# Altium schematic symbol library mainLib.SchLib: 178 symbols (part 1 of 2)
Pins are listed as number, name and electrical type; pins without a type are passive.

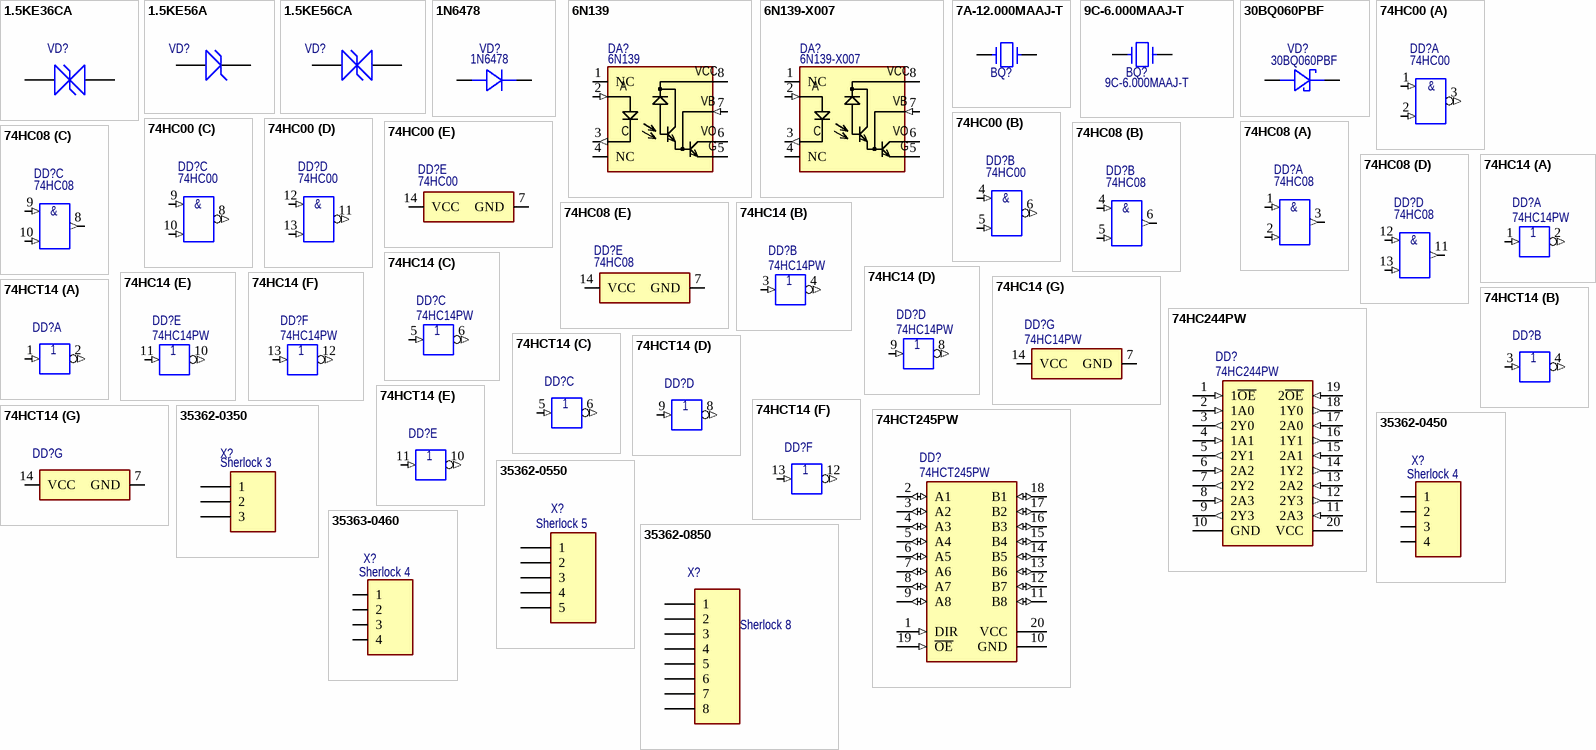
[diagram p0: symbols 1.5KE36CA to 35363-0460]

## 1.5KE36CA
designator VD?
1500 W Zener Transient Voltage Suppressor, Bidirectional; Manufacturer: LITTELFUSE; PartNumber: 1.5KE36CA
footprint 1.5KE_CA (AXIAL, 2-Leads, Diameter 5.05mm)
pins: 1, 2

## 1.5KE56A
designator VD?
1500 W Zener Transient Voltage Suppressor; Manufacturer: LITTELFUSE; PartNumber: 1.5KE36A
footprint 1.5KE_A (AXIAL, 2-Leads, Diameter 5.05mm)
pins: 1, 2

## 1.5KE56CA
designator VD?
1500 W Zener Transient Voltage Suppressor, Bidirectional; Manufacturer: LITTELFUSE; PartNumber: 1.5KE36CA
footprint 1.5KE_CA (AXIAL, 2-Leads, Diameter 5.05mm)
pins: 1, 2

## 1N6478
designator VD?
If=1A, Vf=1.1V Vrrm=50V Diode (DO-213AB); Manufacturer: Vishay; PartNumber: 1N6478
footprint DO-213AB (MELF Diode, 2-Leads, Body 4,95x2,54mm, IPC Low Density)
pins: 1 ANODE, 2 CATHODE

## 6N139
designator DA?
Optocoupler darlingron 5.3kV 100 kbit/s; Manufacturer: Vishay; PartNumber: 6N139
footprint DIP8
pins: 1 NC, 2 (in), 3 C (out), 4 NC, 5 (power), 6 (oc), 7 VB (in), 8 VCC (power)
text: A; VO; G

## 6N139-X007
designator DA?
Optocoupler darlingron 5.3kV 100 kbit/s; Manufacturer: Vishay; PartNumber: 6N139-X007
footprint 6N139-X007 (SOP, 8-Leads, Body 9,77x6,65mm, Pitch 2,54mm, IPC Medium Density)
pins: 1 NC, 2 (in), 3 C (out), 4 NC, 5 (power), 6 (oc), 7 VB (in), 8 VCC (power)
text: A; VO; G

## 7A-12.000MAAJ-T
designator BQ?, comment 12MHz  (value not drawn)
12MHz Quartz Crystal 7A; PartNumber: 7A-12.000MAAJ-T; Manufacturer: TXC; Value: 12MHz
footprint DFN390P500X135-2N (DFN, 2-Leads, Body 3,20x5,00mm, Pitch 3,90mm, Quartz Crystal)
pins: 1, 2

## 9C-6.000MAAJ-T
designator BQ?, comment PartNumber: 9C-6.000MAAJ-T  (hidden comment: 6MHz)
6MHz Quartz Crystal 7A; Manufacturer: TXC; Value: 6MHz
footprint SMD HC-49S (SODFL, 2-Leads, Body 4,80x12,70mm, IPC Low Density)
pins: 1, 2

## 30BQ060PBF
designator VD?
3A/60V Schottky 30BQ060PBF Diode (SMC); Manufacturer: NXP; PartNumber: 30BQ060PBF
footprint SMC_VD_L8.1_W6.2 (Schottky Diode, 2-Leads, Body 8,13x6,52mm, IPC Low Density)
pins: 1 ANODE, 2 CATHODE

## 74HC00
designator DD?
Quad 2-Input Positive-NAND Gates, PW0014A; Generic Part Number: SN74HC00; Manufacturer: Texas Instruments; PartNumber: SN74HC00PW; VCC(Min)(V): 2; VCC(Max)(V): 6; Output Type: CMOS; ICC @ Nom Voltage(Max)(mA): 0.02; Bits(#): 4; F @ Nom Voltage(Max)(Mhz): 70; Technology Family: HC; Voltage(Nom)(V): 5; Schmitt Trigger: Yes; Output Drive (IOL/IOH)(Max)(mA): 5.2/-5.2; tpd @ Nom Voltage(Max)(ns): 23; PackageReference: PW0014A; Input Type: CMOS; Operating Temperature Range(C): -40 to 85
footprint TSSOP14 (SOP, 14-Leads, Body 5.1x4.5mm, Pitch 0.65mm, IPC Low Density)
part A pins: 1 1A (in) "Gate 1 input", 2 1B (in) "Gate 1 input", 3 1Y (out) "Gate 1 output"
part B pins: 4 2A (in) "Gate 2 input", 5 2B (in) "Gate 2 input", 6 2Y (out) "Gate 2 output"
part C pins: 8 3Y (out) "Gate 3 output", 9 3A (in) "Gate 3 input", 10 3B (in) "Gate 3 input"
part D pins: 11 4Y (out) "Gate 4 output", 12 4A (in) "Gate 4 input", 13 4B (in) "Gate 4 input"
part E pins: 7 GND (power) "Ground Pin", 14 VCC (power) "Power Pin"
part A text: &
part B text: &
part C text: &
part D text: &

## 74HC08
designator DD?
Quad 2-Input Positive-NAND Gates, PW0014A; Generic Part Number: SN74HC00; Manufacturer: Texas Instruments; PartNumber: SN74HC08PW; VCC(Min)(V): 2; VCC(Max)(V): 6; Output Type: CMOS; ICC @ Nom Voltage(Max)(mA): 0.02; Bits(#): 4; F @ Nom Voltage(Max)(Mhz): 70; Technology Family: HC; Voltage(Nom)(V): 5; Schmitt Trigger: Yes; Output Drive (IOL/IOH)(Max)(mA): 5.2/-5.2; tpd @ Nom Voltage(Max)(ns): 23; PackageReference: PW0014A; Input Type: CMOS; Operating Temperature Range(C): -40 to 85
footprint TSSOP14 (SOP, 14-Leads, Body 5.1x4.5mm, Pitch 0.65mm, IPC Low Density)
part A pins: 1 1A (in) "Gate 1 input", 2 1B (in) "Gate 1 input", 3 1Y (out) "Gate 1 output"
part B pins: 4 2A (in) "Gate 2 input", 5 2B (in) "Gate 2 input", 6 2Y (out) "Gate 2 output"
part C pins: 8 3Y (out) "Gate 3 output", 9 3A (in) "Gate 3 input", 10 3B (in) "Gate 3 input"
part D pins: 11 4Y (out) "Gate 4 output", 12 4A (in) "Gate 4 input", 13 4B (in) "Gate 4 input"
part E pins: 7 GND (power) "Ground Pin", 14 VCC (power) "Power Pin"
part A text: &
part B text: &
part C text: &
part D text: &

## 74HC14
designator DD?, comment 74HC14PW
Quadruple 2-Input Positive-OR Gates, PW0014A; Manufacturer: Texas Instruments; PackageReference: PW0014A; PartNumber: 74HC14PW
footprint TSSOP14 (SOP, 14-Leads, Body 5.1x4.5mm, Pitch 0.65mm, IPC Low Density)
part A pins: 1 1A (in), 2 1Y (out)
part B pins: 3 2A (in), 4 2Y (out)
part C pins: 5 3A (in), 6 3Y (out)
part D pins: 8 4Y (out), 9 4A (in)
part E pins: 10 5Y (out), 11 5A (in)
part F pins: 12 6Y (out), 13 6A (in)
part G pins: 7 GND (power), 14 VCC (power)

## 74HC244PW
designator DD?
Octal Buffer/Line Driver with 3-State Outputs, PW0020A; Manufacturer: NXP; PartNumber: 74HC244PW
footprint TSSOP20 (SOP, 20-Leads, Body 6.6x4.5mm, Pitch 0.65mm, IPC Low Density)
pins: 1 1~{OE} (in), 2 1A0 (in), 3 2Y0 (out), 4 1A1 (in), 5 2Y1 (out), 6 2A2 (in), 7 2Y2 (out), 8 2A3 (in), 9 2Y3 (out), 10 GND (power), 11 2A3 (in), 12 2Y3 (out), 13 2A2 (in), 14 1Y2 (out), 15 2A1 (in), 16 1Y1 (out), 17 2A0 (in), 18 1Y0 (out), 19 2~{OE} (in), 20 VCC (power)

## 74HCT14
designator DD?
Hex inverting Schmitt trigger, PW0014A; Manufacturer: Texas Instruments; PartNumber: SN74HC14TPW; PackageReference: PW0014A
footprint TSSOP14 (SOP, 14-Leads, Body 5.1x4.5mm, Pitch 0.65mm, IPC Low Density)
part A pins: 1 1A (in), 2 1Y (out)
part B pins: 3 2A (in), 4 2Y (out)
part C pins: 5 3A (in), 6 3Y (out)
part D pins: 8 4Y (out), 9 4A (in)
part E pins: 10 5Y (out), 11 5A (in)
part F pins: 12 6Y (out), 13 6A (in)
part G pins: 7 GND (power), 14 VCC (power)

## 74HCT245PW
designator DD?
Octal Bus Transceivers With 3-State Outputs, PW0020A; Manufacturer: NXP; PartNumber: 74HCT245PW
footprint TSSOP20 (SOP, 20-Leads, Body 6.6x4.5mm, Pitch 0.65mm, IPC Low Density)
pins: 1 DIR (in), 2 A1 (io), 3 A2 (io), 4 A3 (io), 5 A4 (io), 6 A5 (io), 7 A6 (io), 8 A7 (io), 9 A8 (io), 10 GND (power), 11 B8 (io), 12 B7 (io), 13 B6 (io), 14 B5 (io), 15 B4 (io), 16 B3 (io), 17 B2 (io), 18 B1 (io), 19 ~{OE} (in), 20 VCC (power)

## 35362-0350
designator X?, comment Sherlock 3
Sherlock 3 Top, 2A 125V 2mm; PartNumber: 35362-0350; Manufacturer: MOLEX
footprint 35362-0350
pins: 1, 2, 3

## 35362-0450
designator X?, comment Sherlock 4
Sherlock 4 Top, 2A 125V 2mm; PartNumber: 35362-0450; Manufacturer: MOLEX
footprint 35362-0450
pins: 1, 2, 3, 4

## 35362-0550
designator X?, comment Sherlock 5
Sherlock 5 Top, 2A 125V 2mm; PartNumber: 35362-0550; Manufacturer: MOLEX
footprint 35362-0550
pins: 1, 2, 3, 4, 5

## 35362-0850
designator X?, comment Sherlock 8
Sherlock 8 Side, 2A 125V 2mm; PartNumber: 35362-0850; Manufacturer: MOLEX
footprint 35362-0850
pins: 1, 2, 3, 4, 5, 6, 7, 8

## 35363-0460
designator X?, comment Sherlock 4
Sherlock 4 Top, 2A 125V 2mm; PartNumber: 35363-0460; Manufacturer: MOLEX
footprint 35363-0460
pins: 1, 2, 3, 4

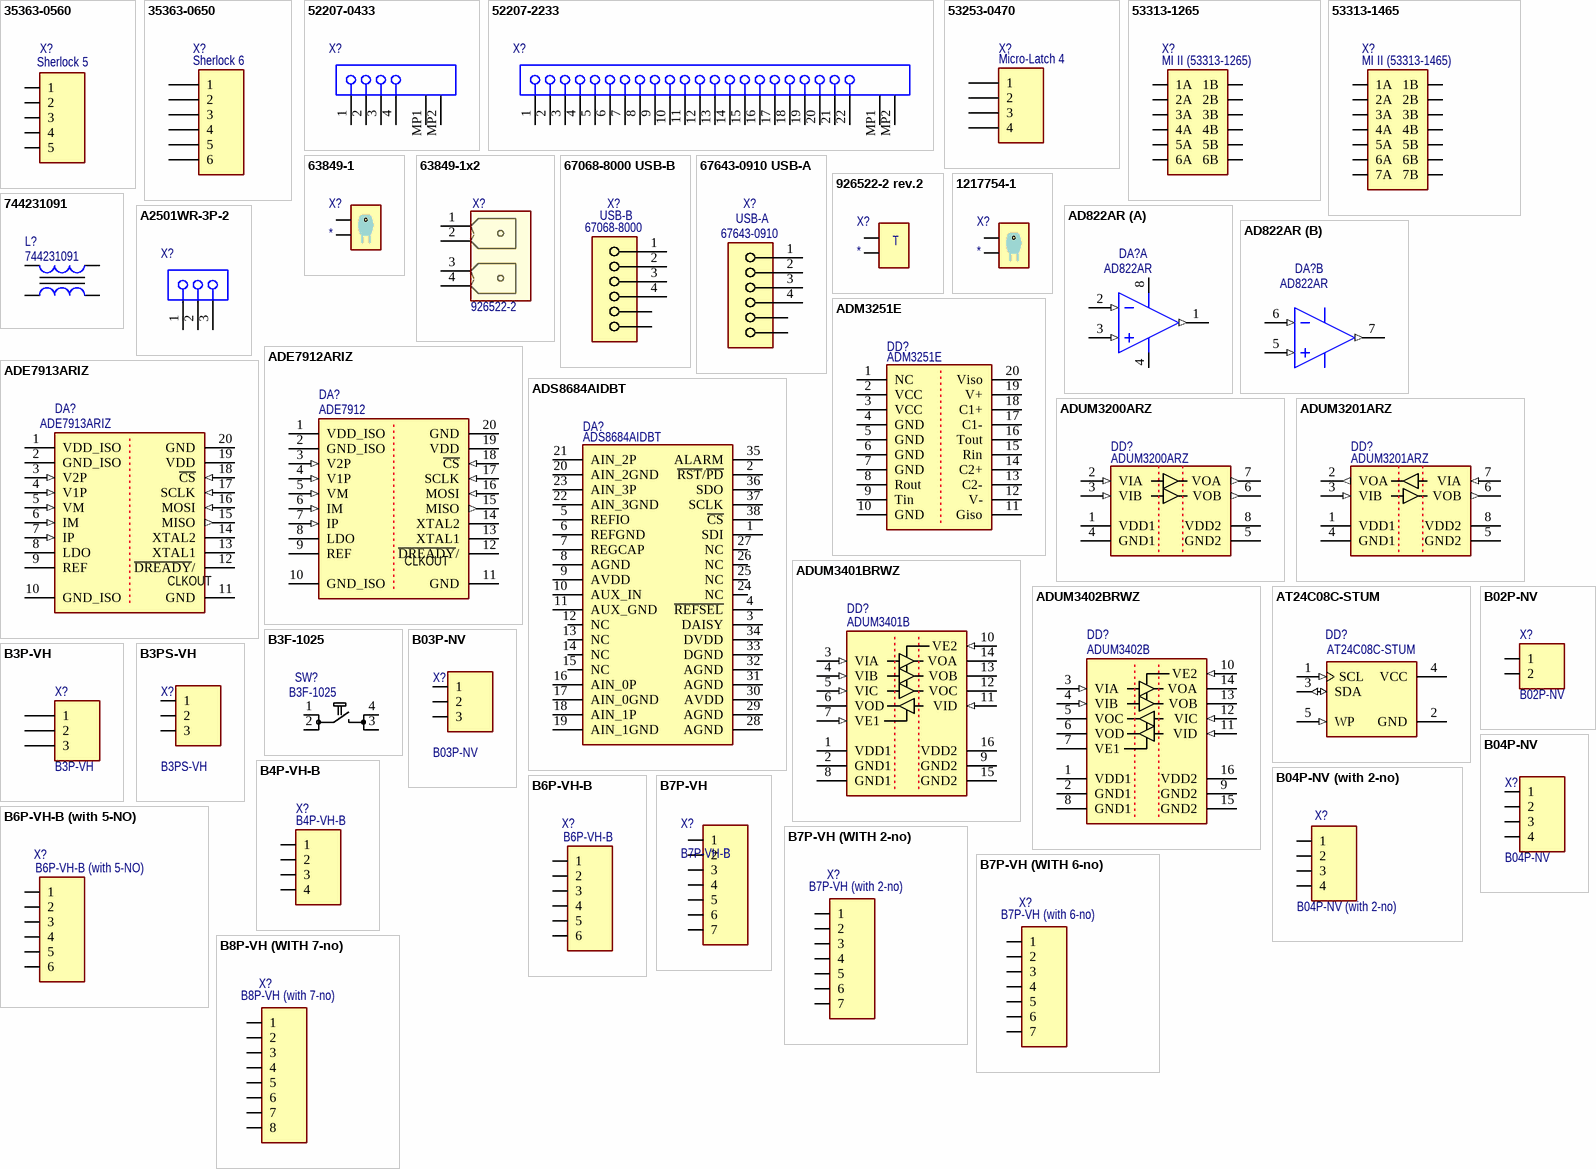
[diagram p1: symbols 35363-0560 to B8P-VH (WITH 7-no)]

## 35363-0560
designator X?, comment Sherlock 5
Sherlock 5 Side, 2A 125V 2mm; PartNumber: 35363-0560; Manufacturer: MOLEX
footprint 35363-0560
pins: 1, 2, 3, 4, 5

## 35363-0650
designator X?, comment Sherlock 6
Sherlock 6 Side, 2A 125V 2mm; PartNumber: 35362-0650; Manufacturer: MOLEX
footprint 35362-0650
pins: 1, 2, 3, 4, 5, 6

## 52207-0433
designator X?
1.0 mm Pitch, 4 Circuits, FPC Connector, Right Angle, ZIF, SMT; Manufacturer: Molex; PartNumber: 52207-0433
footprint MOLX-52207-0433 (FPC Connector, 4-Leads, Right Angle, Pitch 1.0 mm, Mated Height 2.7 mm, SMT)
pins: 1, 2, 3, 4, MP1, MP2

## 52207-2233
designator X?
1.0 mm Pitch, 22 Circuits, FPC Connector, Right Angle, ZIF, SMT; Manufacturer: Molex; PartNumber: 52207-2233
footprint MOLX-52207-2233 (FPC Connector, 22-Leads, Right Angle, Pitch 1.0 mm, Mated Height 2.7 mm, SMT)
pins: 1, 2, 3, 4, 5, 6, 7, 8, 9, 10, 11, 12, 13, 14, 15, 16, 17, 18, 19, 20, 21, 22, MP1, MP2

## 53253-0470
designator X?, comment Micro-Latch 4
Micro-Latch 4  LS=2 2A 125V PCB; PartNumber: 53253-0470; Manufacturer: MOLEX
footprint 53253-0470
pins: 1, 2, 3, 4

## 53313-1265
designator X?, comment MI II (53313-1265)
MI II 12 (6x2row), 2A 125V 2mm; Manufacturer: MOLEX; PartNumber: 53313-1265
footprint 53313-1265 (MI II)
pins: 1A, 1B, 2A, 2B, 3A, 3B, 4A, 4B, 5A, 5B, 6A, 6B

## 53313-1465
designator X?, comment MI II (53313-1465)
MI II 14 (7x2row), 2A 125V 2mm; Manufacturer: MOLEX; PartNumber: 53313-1465
footprint 53313-1465 (MI II)
pins: 1 1A, 1B, 2A, 2B, 3A, 3B, 4A, 4B, 5A, 5B, 6A, 6B, 7A, 7B

## 63849-1
designator X?
PCB, 6.3х0.8, hole; Manufacturer: TE Connectivity; PartNumber: 63849-1
footprint 63849-1
footprint 63849-1+insulator(154719-1)
pins: 1, 2

## 63849-1x2
designator X?, comment 926522-2
DUAL TAB FASTON PCB (926522-2); PartNumber: 63849-1x2; Manufacturer: TE Connectivity; Value: 926522-2
footprint 63849-1x2
pins: 1, 2, 3, 4
1 alternate drawing of the same symbol

## 67068-8000 USB-B
designator X?, comment Part Number: 67068-8000  (hidden comment: USB-B)
USB-B I/O Connector; Manufacturer: Molex; Value: USB-B
footprint Molex_67068-8000_0
pins: 1, 2, 3, 4, 5, 6 MNT 2

## 67643-0910 USB-A
designator X?, comment Part Number: 67643-0910  (hidden comment: USB-A)
USB-B I/O Connector; Manufacturer: Molex; Value: USB-A
footprint Molex_67643-0910_0
pins: 1, 2, 3, 4, 5, 6 MNT 2

## 926522-2 rev.2
designator X?
PCB mount, 6.3x0.8 x2 "T"; Manufacturer: TE Connectivity; PartNumber: 926522-2
footprint 926522-2 rev.2 (Double 63849-1 "T")
pins: 1, 2
text: T

## 1217754-1
designator X?
PCB mount, 6.3x0.8, hole, Angle 90,; Manufacturer: TE Connectivity; PartNumber: 1217754-1
footprint 1217754-1
pins: 1, 2

## 744231091
designator L?
SMD Common Mode Noise Suppressor WE-CNSW, Z = 90 Ohm; Manufacturer: Wurth Elektronik; Impedance: 90 Ohm; DatasheetVersion: ver 4, Nov-2010; PackageReference: WE-CNSW-0805; PackageDescription: SMD Inductor, 4-Leads, Body 1.4 x 2.2 mm; PartNumber: 744231091
footprint WE-CNSW-0805 (SMD Inductor, 4-Leads, Body 1.4x2.2x1.4 mm)
pins: 1, 2, 3, 4

## A2501WR-3P-2
designator X?
3A 250V 2.5mm (Analog JST S3B-XH-A-1); Manufacturer: JOINT TECH; PartNumber: A2501WR-3P-2
footprint S3B-XH-A-1
pins: 1, 2, 3

## AD822AR
designator DA?
2xOp Ampl Rail FET 30V; Manufacturer: Analog Devices; PartNumber: AD822AR
footprint SOIC-8
part A pins: 1 OUT A (out), 2 IN A- (in), 3 IN A+ (in), 4 V- (power), 8 V+ (power)
part B pins: 5 IN B+ (in), 6 IN B- (in), 7 OUT B (out)

## ADE7912ARIZ
designator DA?, comment ADE7912
Isolated, Sigma-Delta ADC with SPI; Manufacturer: Analog Device; PartNumber: ADE7912ARIZ
footprint SOIC-20 WidBody (RI-20-1) (ADE7912A)
pins: 1 VDD_ISO (power), 2 GND_ISO (power), 3 V2P (in), 4 V1P (in), 5 VM (in), 6 IM (in), 7 IP (in), 8 LDO, 9 REF, 10 GND_ISO (power), 11 GND (power), 12 ~{DREADY}/, 13 XTAL1, 14 XTAL2, 15 MISO (out), 16 MOSI (in), 17 SCLK (in), 18 ~{CS} (in), 19 VDD (power), 20 GND (power)
text: CLKOUT

## ADE7913ARIZ
designator DA?
Isolated, Sigma-Delta ADC with SPI; Manufacturer: Analog Device; PartNumber: ADE7913ARIZ
footprint SOIC-20 WidBody (RI-20-1) (ADE7912A)
pins: 1 VDD_ISO (power), 2 GND_ISO (power), 3 V2P (in), 4 V1P (in), 5 VM (in), 6 IM (in), 7 IP (in), 8 LDO, 9 REF, 10 GND_ISO (power), 11 GND (power), 12 ~{DREADY}/, 13 XTAL1, 14 XTAL2, 15 MISO (out), 16 MOSI (in), 17 SCLK (in), 18 ~{CS} (in), 19 VDD (power), 20 GND (power)
text: CLKOUT

## ADM3251E
designator DD?
Isolated, Single-Channel, RS-232 Line Driver/Receiver; Manufacturer: Analog Device; PartNumber: ADM3251EARWZ
footprint RW-20 (SOIC, 20-Leads, Body 12,80x7,50mm, Pitch 1,27mm, IPC Low Density)
pins: 1 NC, 2 VCC (power), 3 VCC (power), 4 GND (power), 5 GND (power), 6 GND (power), 7 GND (power), 8 Rout, 9 Tin, 10 GND (power), 11 Giso, 12 V-, 13 C2-, 14 C2+, 15 Rin, 16 Tout, 17 C1-, 18 C1+, 19 V+, 20 Viso

## ADS8684AIDBT
designator DA?
16-bit 500ksps ADC with MUX; Manufacturer: Texas Instruments; PartNumber: ADS8684AIDBT
footprint TSSOP38 (TSSOP, 38-Leads, Body 9,70x4,40mm, Pitch 0,50mm, IPC Medium Density)
pins: 1 SDI, 2 ~{RST}/~{PD} (power), 3 DAISY (power), 4 ~{REFSEL} (power), 5 REFIO (power), 6 REFGND (power), 7 REGCAP (power), 8 AGND, 9 AVDD, 10 AUX_IN (power), 11 AUX_GND, 12 NC, 13 NC, 14 NC, 15 NC, 16 AIN_0P, 17 AIN_0GND, 18 AIN_1P, 19 AIN_1GND, 20 AIN_2GND, 21 AIN_2P, 22 AIN_3GND, 23 AIN_3P, 24 NC, 25 NC, 26 NC, 27 NC, 28 AGND, 29 AGND, 30 AVDD, 31 AGND, 32 AGND, 33 DGND, 34 DVDD, 35 ALARM, 36 SDO, 37 SCLK, 38 ~{CS}

## ADUM3200ARZ
designator DD?
Dual Channel Digital Isolator, Enhanced System-Level ESD Reliability, 2.5 KV rms Insulation Rating, 1 Mbps Data Rate, 150 ns Delay, Industrial, 8-pin SOIC (R-8), Tube; Manufacturer: Analog Devices; PartNumber: ADUM3200ARZ
footprint SOIC-8
pins: 1 VDD1 (power) "Supply Voltage for Isolator Side 1.", 2 VIA (in) "Logic Input A.", 3 VIB (in) "Logic Input B.", 4 GND1 (power) "Ground 1. Ground Reference for Isolator Side 1.", 5 GND2 (power) "Ground 2. Ground Reference for Isolator Side 2.", 6 VOB (out) "Logic Output B.", 7 VOA (out) "Logic Output A.", 8 VDD2 (power) "Supply Voltage for Isolator Side 2."

## ADUM3201ARZ
designator DD?
Dual Channel Digital Isolator, Enhanced System-Level ESD Reliability, 2.5 KV rms Insulation Rating, 1 Mbps Data Rate, 150 ns Delay, Industrial, 8-pin SOIC (R-8), Tube; Manufacturer: Analog Devices; PartNumber: ADUM3201ARZ
footprint SOIC-8
pins: 1 VDD1 (power) "Supply Voltage for Isolator Side 1.", 2 VOA (out) "Logic Output A.", 3 VIB (in) "Logic Input B.", 4 GND1 (power) "Ground 1. Ground Reference for Isolator Side 1.", 5 GND2 (power) "Ground 2. Ground Reference for Isolator Side 2.", 6 VOB (out) "Logic Output B.", 7 VIA (in) "Logic Input A.", 8 VDD2 (power) "Supply Voltage for Isolator Side 2."

## ADUM3401BRWZ
designator DD?, comment ADUM3401B
Quad Channel Digital Isolator, Enhanced System-Level ESD Reliability, 2.5 KV rms Insulation Rating, 10 Mbps Data Rate, 50 ns Delay, Industrial, 16-pin SOIC (RW-16), Tube; Manufacturer: Analog Devices; PartNumber: ADUM3401BRWZ; Insulation Rating (kVrms): 2.5; Max Data Rate: 10Mbps; DatasheetVersion: Rev. B; PackageVersion: 032707-B, 03/2007; PackageReference: RW-16; PackageDescription: 16-Pin Standard Small Outline Package, Body 10.3 x 7.5 mm, Pitch 1.27 mm; Max Operating Temp (degreesC): 105; Mounting Technology: Surface Mount; Code_JEDEC: MS-013-AA; ComponentLink1Description: Manufacturer URL; ComponentLink1URL: http://www.analog.com/en/index.html; ComponentLink2Description: Datasheet; ComponentLink2URL: http://www.analog.com/static/imported-files/data_sheets/ADUM3400_3401_3402.pdf; ComponentLink3Description: Package Specification; ComponentLink3URL: http://www.analog.com/static/imported-files/packages/PKG_PDF/SOIC_WIDE%20%28RW%29/RW_16.pdf; ComponentLink4Description: URL Link1; ComponentLink4URL: Product URL:http://www.analog.com/en/interface-isolation/digital-isolators/adum3401/products/product.html
footprint ADI-RW-16_N (SOIC, 16-Leads, Body 10.3x7.5mm, Pitch 1.27mm, IPC Medium Density)
pins: 1 VDD1 (power) "Supply Voltage for Isolator Side 1.", 2 GND1 (power) "Ground 1. Ground reference for Isolator Side 1.", 3 VIA (in) "Logic Input A.", 4 VIB (in) "Logic Input B.", 5 VIC (in) "Logic Input C.", 6 VOD (hiz) "Logic Output D.", 7 VE1 (in) "Output Enable 1. Active high logic input. VOD output is enabled when VE1 is high or disconnected. VOD is disabled when VE1 is low. In noisy environments, connecting VE1 to an external logic high or low is recommended.", 8 GND1 (power) "Ground 1. Ground reference for Isolator Side 1.", 9 GND2 (power) "Ground 2. Ground reference for Isolator Side 2.", 10 VE2 (in) "Output Enable 2. Active high logic input. VOA, VOB, and VOC outputs are enabled when VE2 is high or disconnected. VOA, VOB, and VOC outputs are disabled when VE2 is low. In noisy environments, connecting VE2 to an external (See Datasheet)", 11 VID (in) "Logic Input D.", 12 VOC (hiz) "Logic Output C.", 13 VOB (hiz) "Logic Output B.", 14 VOA (hiz) "Logic Output A.", 15 GND2 (power) "Ground 2. Ground reference for Isolator Side 2.", 16 VDD2 (power) "Supply Voltage for Isolator Side 2."

## ADUM3402BRWZ
designator DD?, comment ADUM3402B
Quad Channel Digital Isolator, Enhanced System-Level ESD Reliability, 2.5 KV rms Insulation Rating, 10 Mbps Data Rate, 50 ns Delay, Industrial, 16-pin SOIC (RW-16), Tube; Manufacturer: Analog Devices; PartNumber: ADUM3402BRWZ; Insulation Rating (kVrms): 2.5; Max Data Rate: 10Mbps; DatasheetVersion: Rev. B; PackageVersion: 032707-B, 03/2007; PackageReference: RW-16; PackageDescription: 16-Pin Standard Small Outline Package, Body 10.3 x 7.5 mm, Pitch 1.27 mm; Max Operating Temp (degreesC): 105; Mounting Technology: Surface Mount; Code_JEDEC: MS-013-AA; ComponentLink1Description: Manufacturer URL; ComponentLink1URL: http://www.analog.com/en/index.html; ComponentLink2Description: Datasheet; ComponentLink2URL: http://www.analog.com/static/imported-files/data_sheets/ADUM3400_3401_3402.pdf; ComponentLink3Description: Package Specification; ComponentLink3URL: http://www.analog.com/static/imported-files/packages/PKG_PDF/SOIC_WIDE%20%28RW%29/RW_16.pdf; ComponentLink4Description: URL Link1; ComponentLink4URL: Product URL:http://www.analog.com/en/interface-isolation/digital-isolators/adum3401/products/product.html
footprint ADI-RW-16_N (SOIC, 16-Leads, Body 10.3x7.5mm, Pitch 1.27mm, IPC Medium Density)
pins: 1 VDD1 (power) "Supply Voltage for Isolator Side 1.", 2 GND1 (power) "Ground 1. Ground reference for Isolator Side 1.", 3 VIA (in) "Logic Input A.", 4 VIB (in) "Logic Input B.", 5 VOC (hiz) "Logic Input C.", 6 VOD (hiz) "Logic Output D.", 7 VE1 (hiz) "Output Enable 1. Active high logic input. VOD output is enabled when VE1 is high or disconnected. VOD is disabled when VE1 is low. In noisy environments, connecting VE1 to an external logic high or low is recommended.", 8 GND1 (power) "Ground 1. Ground reference for Isolator Side 1.", 9 GND2 (power) "Ground 2. Ground reference for Isolator Side 2.", 10 VE2 (in) "Output Enable 2. Active high logic input. VOA, VOB, and VOC outputs are enabled when VE2 is high or disconnected. VOA, VOB, and VOC outputs are disabled when VE2 is low. In noisy environments, connecting VE2 to an external (See Datasheet)", 11 VID (in) "Logic Input D.", 12 VIC (in) "Logic Output C.", 13 VOB (hiz) "Logic Output B.", 14 VOA (hiz) "Logic Output A.", 15 GND2 (power) "Ground 2. Ground reference for Isolator Side 2.", 16 VDD2 (power) "Supply Voltage for Isolator Side 2."

## AT24C08C-STUM
designator DD?
I2C Serial EEPROM, 8-Kbit (1024 x 8); PartNumber: AT24C08C-STUM-T; Manufacturer: ATMEL; ComponentLink1Description: Datasheet; ComponentLink1URL: \\NAS1\DataSheet\9589\AT24C08C.pdf
footprint 5TS1 (SOT23, 5-Leads, Body 2,90x2,80mm, Pitch 0,95mm, IPC Medium Density)
pins: 1 SCL (in), 2 GND (power), 3 SDA (io), 4 VCC (power), 5 WP (in)

## B02P-NV
designator X?
NV 2 LS=5.0 10A 250V PCB; Manufacturer: JST; PartNumber: B02P-NV
footprint B02P-NV
pins: 1, 2

## B3F-1025
designator SW?
1-50mA; 5-24V; 6x6mm h=5mm; Red; Manufacturer: Omron; PartNumber: B3F-1025
footprint B3F-1025 (no gnd)
pins: 1, 2, 3, 4

## B03P-NV
designator X?
NV 3 конт LS=5.0 10A 250V PCB; Manufacturer: JST; PartNumber: B03P-NV
footprint B03P-NV
footprint B03P-NV (power)
pins: 1, 2, 3

## B3P-VH
designator X?
VH Top, 10A 250V 3.96mm; Manufacturer: JST; PartNumber: B3P-VH
footprint B3P-VH
pins: 1, 2, 3

## B3PS-VH
designator X?
VH Side, 10A 250V 3.96mm; Manufacturer: JST; PartNumber: B3PS-VH
footprint B3PS-VH
pins: 1, 2, 3

## B04P-NV
designator X?
NV 4 конт LS=5.0 10A 250V PCB; Manufacturer: JST; PartNumber: B04P-NV
footprint B04P-NV
footprint B04P-NV (power)
pins: 1, 2, 3, 4

## B04P-NV (with 2-no)
designator X?
NV 4 конт LS=5.0 10A 250V PCB; Manufacturer: JST; PartNumber: B04P-NV
footprint B04P-NV (with 2-no)
pins: 1, 2, 3, 4

## B4P-VH-B
designator X?
VH 4 конт LS=3.96 10A 250V PCB; Manufacturer: JST; PartNumber: B4P-VH-B
footprint B4P-VH-B
pins: 1, 2, 3, 4

## B6P-VH-B
designator X?
VH 6 конт LS=3.96 10A 250V PCB; Manufacturer: JST; PartNumber: B6P-VH-B
footprint B6P-VH-B
pins: 1, 2, 3, 4, 5, 6

## B6P-VH-B (with 5-NO)
designator X?
VH 6 конт LS=3.96 10A 250V PCB; Manufacturer: JST; PartNumber: B6P-VH-B
footprint B6P-VH-B (with 5-no)
pins: 1, 2, 3, 4, 5, 6

## B7P-VH
designator X?, comment B7P-VH-B
VH 7 конт LS=3.96 10A 250V PCB; PartNumber: B7P-VH; Manufacturer: JST
footprint B7P-VH
pins: 1, 2, 3, 4, 5, 6, 7

## B7P-VH (WITH 2-no)
designator X?, comment B7P-VH (with 2-no)
VH 7 конт LS=3.96 10A 250V PCB; Manufacturer: JST; PartNumber: B7P-VH
footprint B7P-VH (WITH 2-no)
pins: 1, 2, 3, 4, 5, 6, 7

## B7P-VH (WITH 6-no)
designator X?, comment B7P-VH (with 6-no)
VH 7 конт LS=3.96 10A 250V PCB; Manufacturer: JST; PartNumber: B7P-VH
footprint B7P-VH (WITH 6-no)
pins: 1, 2, 3, 4, 5, 6, 7

## B8P-VH (WITH 7-no)
designator X?, comment B8P-VH (with 7-no)
VH 8 конт LS=3.96 10A 250V PCB; Manufacturer: JST; PartNumber: B8P-VH
footprint B8P-VH (WITH 7-no)
pins: 1, 2, 3, 4, 5, 6, 7, 8

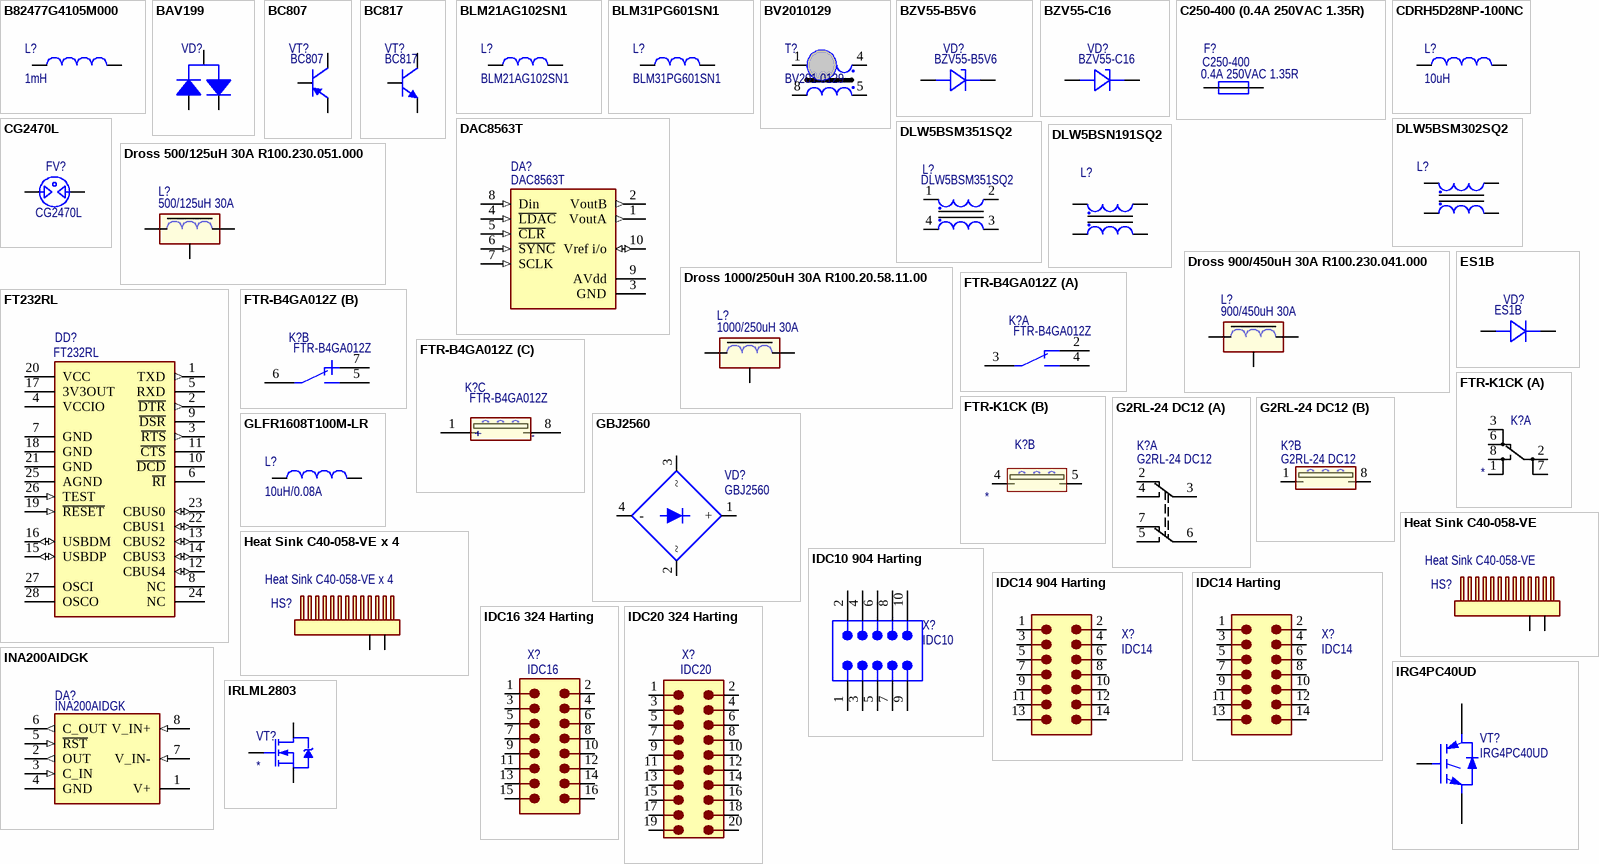
[diagram p2: symbols B82477G4105M000 to IRLML2803]

## B82477G4105M000
designator L?, comment 1mH
1mH/0.55A 20% (1,68) Ferrite inductor SMD (12.8x12.8x8); Manufacturer: TDK(EPCOS); PartNumber: B82477G4105M000; Value: 1mH
footprint SMD_L_L12.8_W12.8 (Precision Wire Wound Inductor, 2-Leads, Body 12,80x12,80mm, IPC Low Density)
footprint SMD_L_L12.8_W12.8 (Precision Wire Wound Inductor, 2-Leads, Body 12,80x12,80mm, IPC Low Density)
pins: 1, 2

## BAV199
designator VD?
Dual Series Switching Diodes, 3-Pin SOT-23, Tape and Reel; Manufacturer: On Semiconductor; PartNumber: BAV199LT1
footprint SOT23-3 (SOT23, 3-Leads, Body 2,90x2,45mm, Pitch 0,95mm, IPC Medium Density)
pins: 1 A, 2 K, 3 K/A

## BC807
designator VT?
PNP Silicon, 3-Pin SOT-23; Manufacturer: NXP; PartNumber: BC807
footprint SOT23-3 (SOT23, 3-Leads, Body 2,90x2,45mm, Pitch 0,95mm, IPC Medium Density)
pins: 1 B, 2 E, 3 C

## BC817
designator VT?
NPN Silicon, 3-Pin SOT-23; Manufacturer: NXP; PartNumber: BC817
footprint SOT23-3 (SOT23, 3-Leads, Body 2,90x2,45mm, Pitch 0,95mm, IPC Medium Density)
pins: 1 B, 2 E, 3 C

## BLM21AG102SN1
designator L?
1000R 0.6A (100MHz); Manufacturer: TDK; Value: 1000R 0.6A (100MHz); PartNumber: BLM21AG102SN1
footprint SMD_L_L2_W1.25
pins: 1, 2

## BLM31PG601SN1
designator L?
600R 1.5A (100MHz); Manufacturer: TDK; Value: 600R 1.5A (100MHz); PartNumber: BLM31PG601SN1
footprint SMD_L_1206
pins: 1, 2

## BV2010129
designator T?, comment BV201 0129
Transformer 0.35VA Vp=1x12 Vs=1x12; Manufacturer: HAHN; PartNumber: BV201 0129
footprint BV201
pins: 1, 4, 5, 8

## BZV55-B5V6
designator VD?
0.5W Vz=5.6V +-2%; Manufacturer: NXP; PartNumber: BZV55-B5V6
footprint SOD80C (MELF Diode, 2-Leads, Body 3,50x1,53mm, IPC Medium Density)
pins: 1 ANODE, 2 CATHODE

## BZV55-C16
designator VD?
0.5W Vz=16V +-5%; Manufacturer: NXP; PartNumber: BZV55-C16
footprint SOD80C (MELF Diode, 2-Leads, Body 3,50x1,53mm, IPC Medium Density)
pins: 1 ANODE, 2 CATHODE

## C250-400 (0.4A 250VAC 1.35R)
designator F?, comment 0.4A 250VAC 1.35R  PartNumber: C250-400
PTC Resettable Fusses 0.4A 250VAC 1.35R; Manufacturer: SEA&LAND ELECTRONIC CORP.
footprint C250-400
pins: 1, 2

## CDRH5D28NP-100NC
designator L?, comment 10uH
10uH, SMD Power Inductor; Manufacturer: SUMIDA; PartNumber: CDRH5D28NP-100NC; Value: 10uH
footprint CDRH5D28NP (Precision Wire Wound Inductor, 2-Leads, Body 5,75x5,75mm, IPC Low Density)
pins: 1, 2

## CG2470L
designator FV?
420V 20A Gas Discharge Tube; Manufacturer: LITTLEFUSE; PartNumber: CG2470L
footprint CG_L
pins: 1, 2

## DAC8563T
designator DA?
Voltage-Outhut DAC, 16bit, Internal Ref 2,5V; Manufacturer: Texas Instruments; PartNumber: DAC8563T
footprint DSG(S-PDSO-G10)
pins: 1 VoutA (out) "Logic Input A.", 2 VoutB (out) "Logic Input B.", 3 GND (power), 4 ~{LDAC} (in), 5 ~{CLR} (in), 6 ~{SYNC} (in), 7 SCLK (in), 8 Din (in), 9 AVdd (power), 10 Vref i/o (io)

## DLW5BSM302SQ2
designator L?
SMD Common Mode Choke Coil 0.5A Z = 3000 Ohm / 100 MHz; PartNumber: DLW5BSM302SQ2; Manufacturer: MURATA
footprint DLW5BS(AH) (SMD Inductor)
pins: 1, 2, 3, 4

## DLW5BSM351SQ2
designator L?
SMD Common Mode Choke Coil 2A Z = 350 Ohm / 100 MHz; Manufacturer: MURATA; PartNumber: DLW5BSM351SQ2
footprint DLW5BS(AH) (SMD Inductor)
pins: 1, 2, 3, 4

## DLW5BSN191SQ2
designator L?
SMD Common Mode Choke Coil 5A Z = 350 Ohm / 100 MHz; PartNumber: DLW5BSN191SQ2; Manufacturer: MURATA; Impedance: 190 Ohm
footprint DLW5BS(AH) (SMD Inductor)
pins: 1, 2, 3, 4

## Dross 500/125uH 30A R100.230.051.000
designator L?, comment 500/125uH 30A
500/125uH 30A  (Core T250-52 X1); Manufacturer: OLTEST; PartNumber: R100.230.051.000; Value: 500/125uH 30A
footprint Dross (500/125 uH 30 A)AMAK.671111.034
pins: 1, 2, 3

## Dross 900/450uH 30A R100.230.041.000
designator L?, comment 900/450uH 30A
900/450uH 30A  (Core CK40090 X2); Manufacturer: OLTEST; PartNumber: R100.230.041.000; Value: 900/450uH 30A
footprint Dross (900/450 uH) R100230.041.000
pins: 1, 2, 3

## Dross 1000/250uH 30A R100.20.58.11.00
designator L?, comment 1000/250uH 30A
1000/250uH 30A  (Core T250-52 X2); Manufacturer: OLTEST; PartNumber: R100.20.58.11.00; Value: 1000/250uH 30A
footprint Dross (1000/250 uH 30 A)AMAK.671111.033
pins: 1, 2, 3

## ES1B
designator VD?
Vr=100V If=1A Ultrafast; Manufacturer: Vishay; PartNumber: ES1B
footprint DO-214AC (Molded Diode, 2-Leads, Body 5,10x2,67mm, IPC Medium Density)
pins: 1 ANODE, 2 CATHODE

## FT232RL
designator DD?
USB UART Asynchronous Serial Data Transfer Chip, 28-pin SSOP; Manufacturer: FTDI; PartNumber: FT232RL
footprint SSOP-28_M (SOP, 28-Leads, Body 10.2x5.3mm, Pitch 0.65mm, IPC Low Density)
pins: 1 TXD (out), 2 ~{DTR} (out), 3 ~{RTS} (out), 4 VCCIO (power), 5 RXD, 6 ~{RI}, 7 GND (power), 8 NC, 9 ~{DSR}, 10 ~{DCD}, 11 ~{CTS}, 12 CBUS4 (io), 13 CBUS2 (io), 14 CBUS3 (io), 15 USBDP (io), 16 USBDM (io), 17 3V3OUT, 18 GND (power), 19 ~{RESET} (in), 20 VCC (power), 21 GND (power), 22 CBUS1 (io), 23 CBUS0 (io), 24 NC, 25 AGND (power), 26 TEST (in), 27 OSCI, 28 OSCO

## FTR-B4GA012Z
designator K?
250VAC 1A DPDT 12VDC; Manufacturer: Fujitsu; PartNumber: FTR-B4GA012Z
footprint FTR-B4GA
part A pins: 2, 3, 4
part B pins: 5, 6, 7
part C pins: 1, 8
part C text: -; +

## FTR-K1CK
designator K?
440VAC 16A SPDT 12VDC; Manufacturer: Fujitsu; PartNumber: FTR-K1CK012W
footprint FTR-K1CK
part A pins: 1, 2, 3, 6, 7, 8
part B pins: 4, 5

## G2RL-24 DC12
designator K?
440VAC 8A DPDT 12VDC; Manufacturer: Omron; PartNumber: G2RL-24 DC12
footprint G2RL
part A pins: 2, 3, 4, 5, 6, 7
part B pins: 1, 8

## GBJ2560
designator VD?
25A 600V; Manufacturer: Vishay; PartNumber: GSIB2560-E3/45
footprint GSIB-5S
pins: 1 +, 2 ~, 3 ~, 4 -
2 alternate drawings of the same symbol

## GLFR1608T100M-LR
designator L?, comment 10uH/0.08A
10uH/0.08A 20% (D1.6 W0.8); Manufacturer: TDK; PartNumber: GLFR1608T100M-LR; Value: 10uH/0.08A
footprint SMD_L_L1.6_W0.8 (Chip Inductor, 2-Leads, Body 1,60x0,80mm, IPC Low Density)
pins: 1, 2

## Heat Sink C40-058-VE
designator HS?
Heat Sink; Manufacturer: OLTEST; PartNumber: C40-058-VE
footprint Heat Sink C40-058-VE
pins: 1, 2

## Heat Sink C40-058-VE x 4
designator HS?
Heat Sink; PartNumber: (C40-058-VE) X 4; Manufacturer: OLTEST
footprint Heat Sink C40-058-VE
pins: 1, 2

## IDC10 904 Harting
designator X?, comment IDC10
Flat Cable Connector (IDC), Standard Male Header, Straight Solder Pin, 10 Contacts, Long Levers, Performance Level 2; PartNumber: 09 18 510 6904; PCB_Layout: Complies with manufacturer's recommendation.; DrillSize: Corresponds to nominal value.; Published: 15-Nov-2004; DatasheetDocument: Sep-2003; PackageDocument: Jun-2000; PackageReference: 918510x904; Publisher: Altium Limited; ComponentLink1Description: Manufacturer Link; ComponentLink1URL: http://www.harting.com/; ComponentLink2Description: Selection Guide; ComponentLink2URL: http://www.harting.com/imperia/md/content/steckverbinderundsystemkomponenten/folder/interface_engl_chapter_09.pdf
footprint 918510x324 (Connector; IDC, Low Profile Male Header, Thru-Hole; 10 Position; Vertical; Pitch 2.54 mm; Body 20.32 x 9.2 x 9.45 mm (LxWxH))
pins: 1, 2, 3, 4, 5, 6, 7, 8, 9, 10

## IDC14 904 Harting
designator X?, comment IDC14
Flat Cable Connector (IDC), Standard Male Header, Straight Solder Pin, 14 Contacts, Long Levers, Performance Level 2; PartNumber: 09 18 514 6904; PCB_Layout: Complies with manufacturer's recommendation.; DrillSize: Corresponds to nominal value.; Published: 15-Nov-2004; DatasheetDocument: Sep-2003; PackageDocument: Jun-2000; PackageReference: 918514x904; Publisher: Altium Limited; ComponentLink1Description: Manufacturer Link; ComponentLink1URL: http://www.harting.com/; ComponentLink2Description: Selection Guide; ComponentLink2URL: http://www.harting.com/imperia/md/content/steckverbinderundsystemkomponenten/folder/interface_engl_chapter_09.pdf
footprint 918514x904 (Connector; IDC, Thru-Hole; 14 Position; Vertical; Pitch 2.54 mm; Body 37.40 x 8.5 x 25.75 mm (LxWxH), Locking levers)
pins: 1, 2, 3, 4, 5, 6, 7, 8, 9, 10, 11, 12, 13, 14

## IDC14 Harting
designator X?, comment IDC14
Flat Cable Connector (IDC), Standard Male Header, Straight Solder Pin, 14 Contacts, , Performance Level 2; Manufacturer: HARTING; PartNumber: 09185146324; PackageReference: 091X514X324
footprint IDC14
pins: 1, 2, 3, 4, 5, 6, 7, 8, 9, 10, 11, 12, 13, 14

## IDC16 324 Harting
designator X?, comment IDC16
Flat Cable Connector (IDC), Low-Profile Male Header, Straight Solder Pin, 16 Contacts, Performance Level 2; PartNumber: 09 18 516 6324; Manufacturer: HARTING
footprint 918516x324 (Connector; IDC, Low Profile Male Header, Thru-Hole; 16 Position; Vertical; Pitch 2.54 mm; Body 27.94 x 9.2 x 9.45 mm (LxWxH))
pins: 1, 2, 3, 4, 5, 6, 7, 8, 9, 10, 11, 12, 13, 14, 15, 16

## IDC20 324 Harting
designator X?, comment IDC20
Flat Cable Connector (IDC), Low-Profile Male Header, Straight Solder Pin, 20 Contacts, Performance Level 2; PartNumber: 09 18 520 6324; Manufacturer: HARTING
footprint 918520x324 (Connector; IDC, Low Profile Male Header, Thru-Hole; 20 Position; Vertical; Pitch 2.54 mm; Body 33.02 x 9.2 x 9.45 mm (LxWxH))
pins: 1, 2, 3, 4, 5, 6, 7, 8, 9, 10, 11, 12, 13, 14, 15, 16, 17, 18, 19, 20

## INA200AIDGK
designator DA?
Current-Shunt Monitor Ref G=20; Manufacturer: Texas Instruments; PartNumber: INA200AIDGK
footprint TSOP-8 65P490X110 (TSOP, 8-Leads, Body 3,00x3,00mm, Pitch 0,65mm, IPC Medium Density)
pins: 1 V+ (power), 2 OUT (out), 3 C_IN (in), 4 GND (power), 5 ~{RS}~{T} (in), 6 C_OUT (out), 7 V_IN- (in), 8 V_IN+ (in)

## IRG4PC40UD
designator VT?
Insulated Gate Bipolar Transistor with Ultrafast Soft Recovery Diode; PartNumber: IRG4PC40UDPbF; Manufacturer: International Rectifier
footprint TO-247AC-3Pins (SIP with Mounting Hole; 3 Leads; Body 20 x 15.6 x 5 mm (typ); Pitch 5.45 mm)
pins: 1 G, 2 C, 3 E

## IRLML2803
designator VT?
N-Channel 30V 1.2A 0.4R; Manufacturer: International Rectifier; PartNumber: IRLML2803
footprint SOT23-3 (SOT23, 3-Leads, Body 2,90x2,45mm, Pitch 0,95mm, IPC Medium Density)
pins: 1, 2, 3

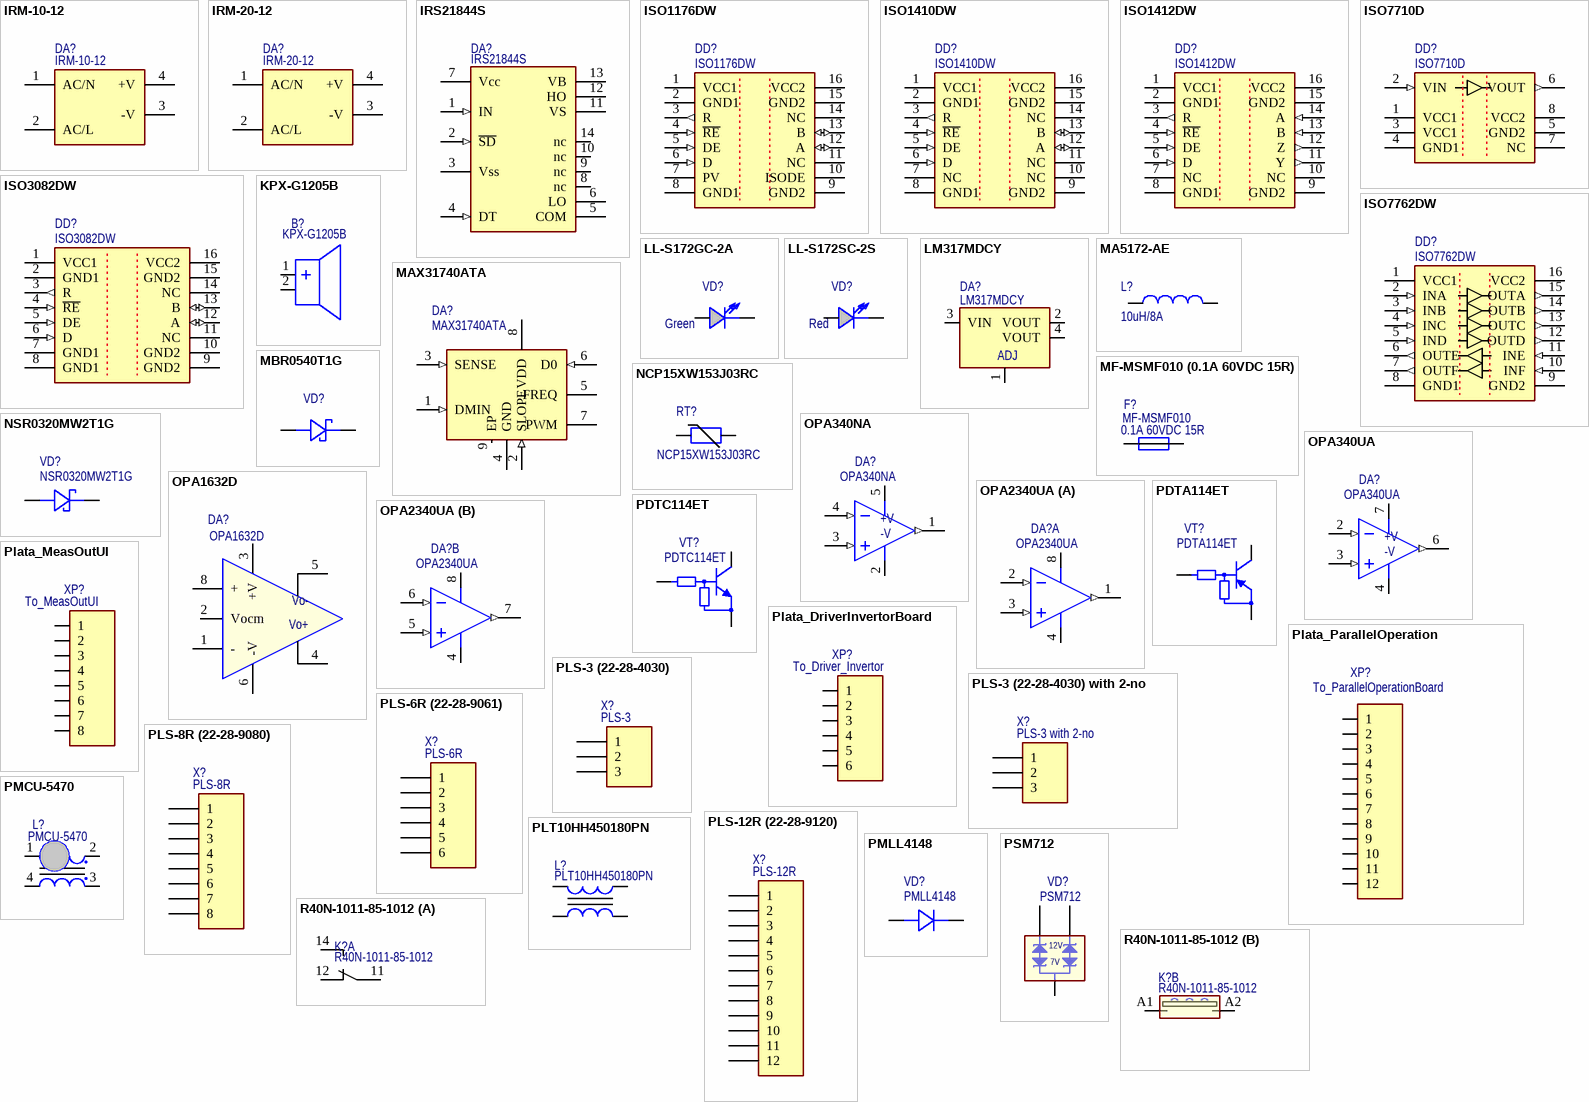
[diagram p3: symbols IRM-10-12 to R40N-1011-85-1012]

## IRM-10-12
designator DA?
10W 12VDC 0.85A PCB; Manufacturer: Mean Well; PartNumber: IRM-10-12
footprint IRM-10-12
pins: 1 AC/N, 2 AC/L, 3 -V, 4 +V

## IRM-20-12
designator DA?
20W 12VDC 1.85A PCB; Manufacturer: Mean Well; PartNumber: IRM-20-12
footprint IRM-20-12
pins: 1 AC/N, 2 AC/L, 3 -V, 4 +V

## IRS21844S
designator DA?
Half-Bridge Driver; Manufacturer: International Rectifier; PartNumber: IRS21844SPBF
footprint SOIC-14(127P600X175) (SOIC, 14-Leads, Body 8,65x3,90mm, Pitch 1,27mm, IPC Medium Density)
pins: 1 IN (in), 2 ~{SD} (in), 3 Vss (power), 4 DT (in), 5 COM (power), 6 LO, 7 Vcc (power), 8 nc, 9 nc, 10 nc, 11 VS, 12 HO, 13 VB, 14 nc

## ISO1176DW
designator DD?
Isolated, Half-Dupl RS-485 Transiver; Manufacturer: Texas Instrument; Inputs/Outputs: true; PartNumber: ISO1176DW
footprint SOIC127P1030X265-16M (SOIC, 16-Leads, Body 10,30x7,50mm, Pitch 1,27mm, IPC Low Density)
pins: 1 VCC1 (power), 2 GND1 (power), 3 R (out), 4 ~{RE} (in), 5 DE (in), 6 D (in), 7 PV (power), 8 GND1 (power), 9 GND2, 10 ISODE, 11 NC (hiz), 12 A (io), 13 B (io), 14 NC (hiz), 15 GND2 (power), 16 VCC2 (power)

## ISO1410DW
designator DD?
Isolated, Half-Dupl RS-485 Transiver; Manufacturer: Texas Instrument; Inputs/Outputs: true; PartNumber: ISO1410DW
footprint SOIC127P1030X265-16M (SOIC, 16-Leads, Body 10,30x7,50mm, Pitch 1,27mm, IPC Low Density)
pins: 1 VCC1 (power), 2 GND1 (power), 3 R (out), 4 ~{RE} (in), 5 DE (in), 6 D (in), 7 NC (power), 8 GND1 (power), 9 GND2, 10 NC, 11 NC (hiz), 12 A (io), 13 B (io), 14 NC (hiz), 15 GND2 (power), 16 VCC2 (power)

## ISO1412DW
designator DD?
Isolated, Full-Dupl RS-485 Transiver; Manufacturer: Texas Instrument; Inputs/Outputs: true; PartNumber: ISO1412DW
footprint SOIC127P1030X265-16M (SOIC, 16-Leads, Body 10,30x7,50mm, Pitch 1,27mm, IPC Low Density)
pins: 1 VCC1 (power), 2 GND1 (power), 3 R (out), 4 ~{RE} (in), 5 DE (in), 6 D (in), 7 NC (power), 8 GND1 (power), 9 GND2, 10 NC, 11 Y (out), 12 Z (out), 13 B (in), 14 A (in), 15 GND2 (power), 16 VCC2 (power)

## ISO3082DW
designator DD?
Isolated, Half-Dupl RS-485 Transiver; Manufacturer: Texas Instrument; Inputs/Outputs: true; PartNumber: ISO3082DW
footprint SOIC127P1030X265-16M (SOIC, 16-Leads, Body 10,30x7,50mm, Pitch 1,27mm, IPC Low Density)
pins: 1 VCC1 (power), 2 GND1 (power), 3 R (out), 4 ~{RE} (in), 5 DE (in), 6 D (in), 7 GND1 (power), 8 GND1 (power), 9 GND2, 10 GND2, 11 NC (hiz), 12 A (io), 13 B (io), 14 NC (hiz), 15 GND2 (power), 16 VCC2 (power)

## ISO7710D
designator DD?
One Channel Digital Isolator, Enhanced System-Level ESD Reliability, 3 KV rms Insulation Rating, 100 Mbps Data Rate,  Industrial, 8-pin SOIC-8; Manufacturer: Texas Instrument; PartNumber: ISO7710D
footprint SOIC-8
pins: 1 VCC1 (power) "Supply Voltage for Isolator Side 1.", 2 VIN (in) "Logic Input A.", 3 VCC1 (power) "Ground 1. Ground reference for Isolator Side 1.", 4 GND1 (power) "Ground 1. Ground reference for Isolator Side 1.", 5 GND2 (power) "Ground 2. Ground reference for Isolator Side 2.", 6 VOUT (out) "Logic Output A.", 7 NC "Ground 2. Ground reference for Isolator Side 2.", 8 VCC2 (power) "Supply Voltage for Isolator Side 2."

## ISO7762DW
designator DD?
High-speed, robust EMC six-channel digital isolator; Manufacturer: Texas Instrument; PartNumber: ISO7762DW
footprint SOIC127P1030X265-16M (SOIC, 16-Leads, Body 10,30x7,50mm, Pitch 1,27mm, IPC Low Density)
pins: 1 VCC1 (power), 2 INA (in), 3 INB (in), 4 INC (in), 5 IND (in), 6 OUTE (out), 7 OUTF (out), 8 GND1 (power), 9 GND2 (power), 10 INF (in), 11 INE (in), 12 OUTD (out), 13 OUTC (out), 14 OUTB (out), 15 OUTA (out), 16 VCC2 (power)

## KPX-G1205B
designator B?
Magnetic Buzzer; Manufacturer: KEPO; PartNumber: KPX-G1205B
footprint KPX-G12
pins: 1 +, 2 -

## LL-S172GC-2A
designator VD?  value Green
LED Green SMD; PartNumber: LL-S172GC-2A; Manufacturer: Lucky Light
footprint SMD_LED_LL_Green (Chip Diode, 2-Leads, Body 2,00x1,25mm, IPC Low Density)
pins: 1 ANODE, 2 CATHODE

## LL-S172SC-2S
designator VD?  value Red
LED Red SMD; PartNumber: LL-S172SC-2S; Manufacturer: Lucky Light
footprint SMD_LED_LL_Red (Chip Diode, 2-Leads, Body 2,00x1,25mm, IPC Low Density)
pins: 1 ANODE, 2 CATHODE

## LM317MDCY
designator DA?
Voltage regulator Liner, Vin=2.5-40V, Vo1.25-V to 37, Io=500mA; Manufacturer: Texas Instruments; PartNumber: LM317MDCY
footprint SOT-223_M (SOT223, 4-Leads, Body 6.5x3.5mm, Pitch 2.3mm, Lead Span 7mm, IPC Low Density)
pins: 1 ADJ (power), 2 VOUT (power), 3 VIN (power), 4 VOUT (power)

## MA5172-AE
designator L?, comment 10uH/8A
10uH/8.2A Powdered iron (D28.6 W12.3); Manufacturer: Coilcraft; PartNumber: MA5172-AE; Value: 10uH/8A
footprint MA5172-AE (7uH/8A)
pins: 1, 2

## MAX31740ATA
designator DA?
Fan-Speed Controller; Manufacturer: MAXIM; PartNumber: MAX31740ATA
footprint TDFN-8 (MAX31740)
pins: 1 DMIN (in) "Min PWM duty cycle", 2 SLOPE (in) "to set the slope of the temperature-PWM curve", 3 SENSE (in) "Termistor Voltage Input", 4 GND (power) "Ground", 5 FREQ "to set PWM frequency", 6 D0 (in) "Duty Cycle Input", 7 PWM (power) "Ground 2. Ground Reference for Isolator Side 2.", 8 VDD (power) "Supply Voltage Input", 9 EP "Exposed Pad"

## MBR0540T1G
designator VD?  (value not drawn)
0.5A/40V Schottky Diode (SOD-123); Manufacturer: ON Semiconductor; PartNumber: MBR0540T1G
footprint SOD-123 (Molded Diode, 2-Leads, Body 3,71x1,60mm)
pins: 1 Cathode, 2 Anode

## MF-MSMF010 (0.1A 60VDC 15R)
designator F?, comment 0.1A 60VDC 15R  PartNumber: MF-MSMF010
PTC Resettable Fusses 0.1A 60VDC 15R; Manufacturer: BOURNS
footprint MF-MSMF010
pins: 1, 2

## NCP15XW153J03RC
designator RT?
R(25)=15K +-5% (25); Manufacturer: MURATA; PartNumber: NCP15XW153J03RC
footprint NCP15XW153J03RC
pins: 1 ANODE, 2 CATHODE

## NSR0320MW2T1G
designator VD?
Vr=20V If=1A Schottky Diode; Manufacturer: ON SEMICONDUCTOR; PartNumber: NSR0320MW2T1G
footprint SOD 2 FL250X100 (SODFL, 2-Leads, Body 1,25x2,50mm, IPC Medium Density)
pins: 1 CATHODE, 2 ANODE

## OPA340NA
designator DA?
Single-Supply, Rail-to-Rail Operational Amplifier MicroAmplifier(TM) Series, 2.5 to 5.5 V, -40 to 85 degC, 5-pin ,SOT-23  Green (RoHS & no Sb/Br); Manufacturer: Texas Instruments; PartNumber: OPA340NA
footprint SOT23-5pins
pins: 1 OUT A (out), 2 V- (power), 3 IN A+ (in), 4 IN A- (in), 5 V+ (power)
text: +V; -V

## OPA340UA
designator DA?
Single-Supply, Rail-to-Rail Operational Amplifier MicroAmplifier(TM) Series, 2.5 to 5.5 V, -40 to 85 degC, 8-pin SOIC (D8), Green (RoHS & no Sb/Br); Manufacturer: Texas Instruments; PartNumber: OPA340UA
footprint SOIC-8
pins: 2 IN A- (in), 3 IN A+ (in), 4 V- (power), 6 OUT A (out), 7 V+ (power)
text: +V; -V

## OPA1632D
designator DA?
Fully diff OA, Low Noise; Manufacturer: Texas Instruments; PartNumber: OPA1632D
footprint SOIC-8
pins: 1 -, 2 Vocm, 3 +V, 4, 5 4, 6 -V, 7, 8 +
text: Vo-; Vo+

## OPA2340UA
designator DA?
Single-Supply, Rail-to-Rail Operational Amplifier MicroAmplifier(TM) Series, 2.5 to 5.5 V, -40 to 85 degC, 8-pin SOIC (D8), Green (RoHS & no Sb/Br); Manufacturer: Texas Instruments; PartNumber: OPA2340UA
footprint TI-D8_M (SOIC, 8-Leads, Body 4.9x3.9mm, Pitch 1.27mm, IPC Low Density)
pins on every part: 4 V- (power), 8 V+ (power)
part A pins: 1 OUT A (out), 2 IN A- (in), 3 IN A+ (in)
part B pins: 5 IN B+ (in), 6 IN B- (in), 7 OUT B (out)

## PDTA114ET
designator VT?
Digital Transistor (BRT), R1=10 kOhm, R2=10 kOhm, PNP Transistor; Manufacturer: NXP; PartNumber: PDTA114ET
footprint SOT23-3 (SOT23, 3-Leads, Body 2,90x2,45mm, Pitch 0,95mm, IPC Medium Density)
pins: 1 B, 2 E, 3 C

## PDTC114ET
designator VT?
Digital Transistor (BRT), R1=10 kOhm, R2=10 kOhm, NPN Transistor; Manufacturer: On Semiconductor; PartNumber: PDTC114ET
footprint SOT23-3 (SOT23, 3-Leads, Body 2,90x2,45mm, Pitch 0,95mm, IPC Medium Density)
pins: 1 B, 2 E, 3 C

## Plata_DriverInvertorBoard
designator XP?, comment То_Driver_Invertor
to DriverInvertorBoard; PartNumber: АМАК.421451.035; Manufacturer: OLTEST
footprint XP(Driver_Invertor)
pins: 1, 2, 3, 4, 5, 6

## Plata_MeasOutUI
designator XP?, comment То_MeasOutUI
to MeasOutUI; PartNumber: R100.230.080.000; Manufacturer: OLTEST
footprint XP(MeasOutUIBoard)
pins: 1, 2, 3, 4, 5, 6, 7, 8

## Plata_ParallelOperation
designator XP?, comment То_ParallelOperationBoard
to ParallelOperationBoard; PartNumber: R100.20.62.10.00; Manufacturer: OLTEST
footprint XP(ParallelOperation)
pins: 1, 2, 3, 4, 5, 6, 7, 8, 9, 10, 11, 12

## PLS-3 (22-28-4030)
designator X?, comment PLS-3
Molex KK254 42375 LS=2.54 4A 250VDC PCB; PartNumber: 22-28-4030; Manufacturer: MOLEX
footprint PLS-1x3 (22-28-4030 molex)
pins: 1, 2, 3

## PLS-3 (22-28-4030) with 2-no
designator X?, comment PLS-3 with 2-no
Molex KK254 42375 LS=2.54 4A 250VDC PCB; PartNumber: 22-28-4030; Manufacturer: MOLEX
footprint PLS-1x3 (22-28-4030 molex)with 2-no
pins: 1, 2, 3

## PLS-6R (22-28-9061)
designator X?, comment PLS-6R
Molex KK254 42377 LS=2.54 4A 250VDC PCB; PartNumber: 22-28-9061; Manufacturer: MOLEX
footprint PLS_R-1x6 (22-28-9061 mplex)
pins: 1, 2, 3, 4, 5, 6

## PLS-8R (22-28-9080)
designator X?, comment PLS-8R
Molex KK254 42377 LS=2.54 4A 250VDC PCB; PartNumber: 22-28-9080; Manufacturer: MOLEX
footprint PLS_R-1x8 (22-28-9080 mplex)
pins: 1, 2, 3, 4, 5, 6, 7, 8

## PLS-12R (22-28-9120)
designator X?, comment PLS-12R
Molex KK254 42377 LS=2.54 4A 250VDC PCB; PartNumber: 22-28-9120; Manufacturer: MOLEX
footprint PLS_R-1x12 (22-28-9120 mplex)
pins: 1, 2, 3, 4, 5, 6, 7, 8, 9, 10, 11, 12

## PLT10HH450180PN
designator L?
SMD Common Mode Choke Coil 18A Z = 45 Ohm / 100 MHz; Manufacturer: MURATA; Impedance: 45 Ohm; PartNumber: PLT10HH450180PN
footprint PLT10H
pins: 1, 2, 3, 4

## PMCU-5470
designator L?
47mH 0.15A 6.9R; Manufacturer: Premier Magnetics; Impedance: 6.9 Ohm; PartNumber: PMCU-5470
footprint PMCU-XXXX U9.8
pins: 1, 2, 3, 4

## PMLL4148
designator VD?
If=0.2A, Vf=1V Vrrm=100V Diode (SOD80C); Manufacturer: NXP Semiconductors; PartNumber: PMLL4148
footprint SOD80C (MELF Diode, 2-Leads, Body 3,50x1,53mm, IPC Medium Density)
pins: 1 ANODE, 2 CATHODE

## PSM712
designator VD?
ASYMMETRICAL DATA LINE PROTECTOR; Manufacturer: Protec Devices; PartNumber: PSM712
footprint SOT23-3 (SOT23, 3-Leads, Body 2,90x2,45mm, Pitch 0,95mm, IPC Medium Density)
pins: 1 I/O1, 2 I/O2, 3 GND (power)
text: 12V; 7V

## R40N-1011-85-1012
designator K?
240VAC 40A 1NO 12VDC; Manufacturer: Relpol; PartNumber: R40N-1011-85-1012
footprint R40N-1011
part A pins: 11, 12, 14
part B pins: A1 1, A2 2

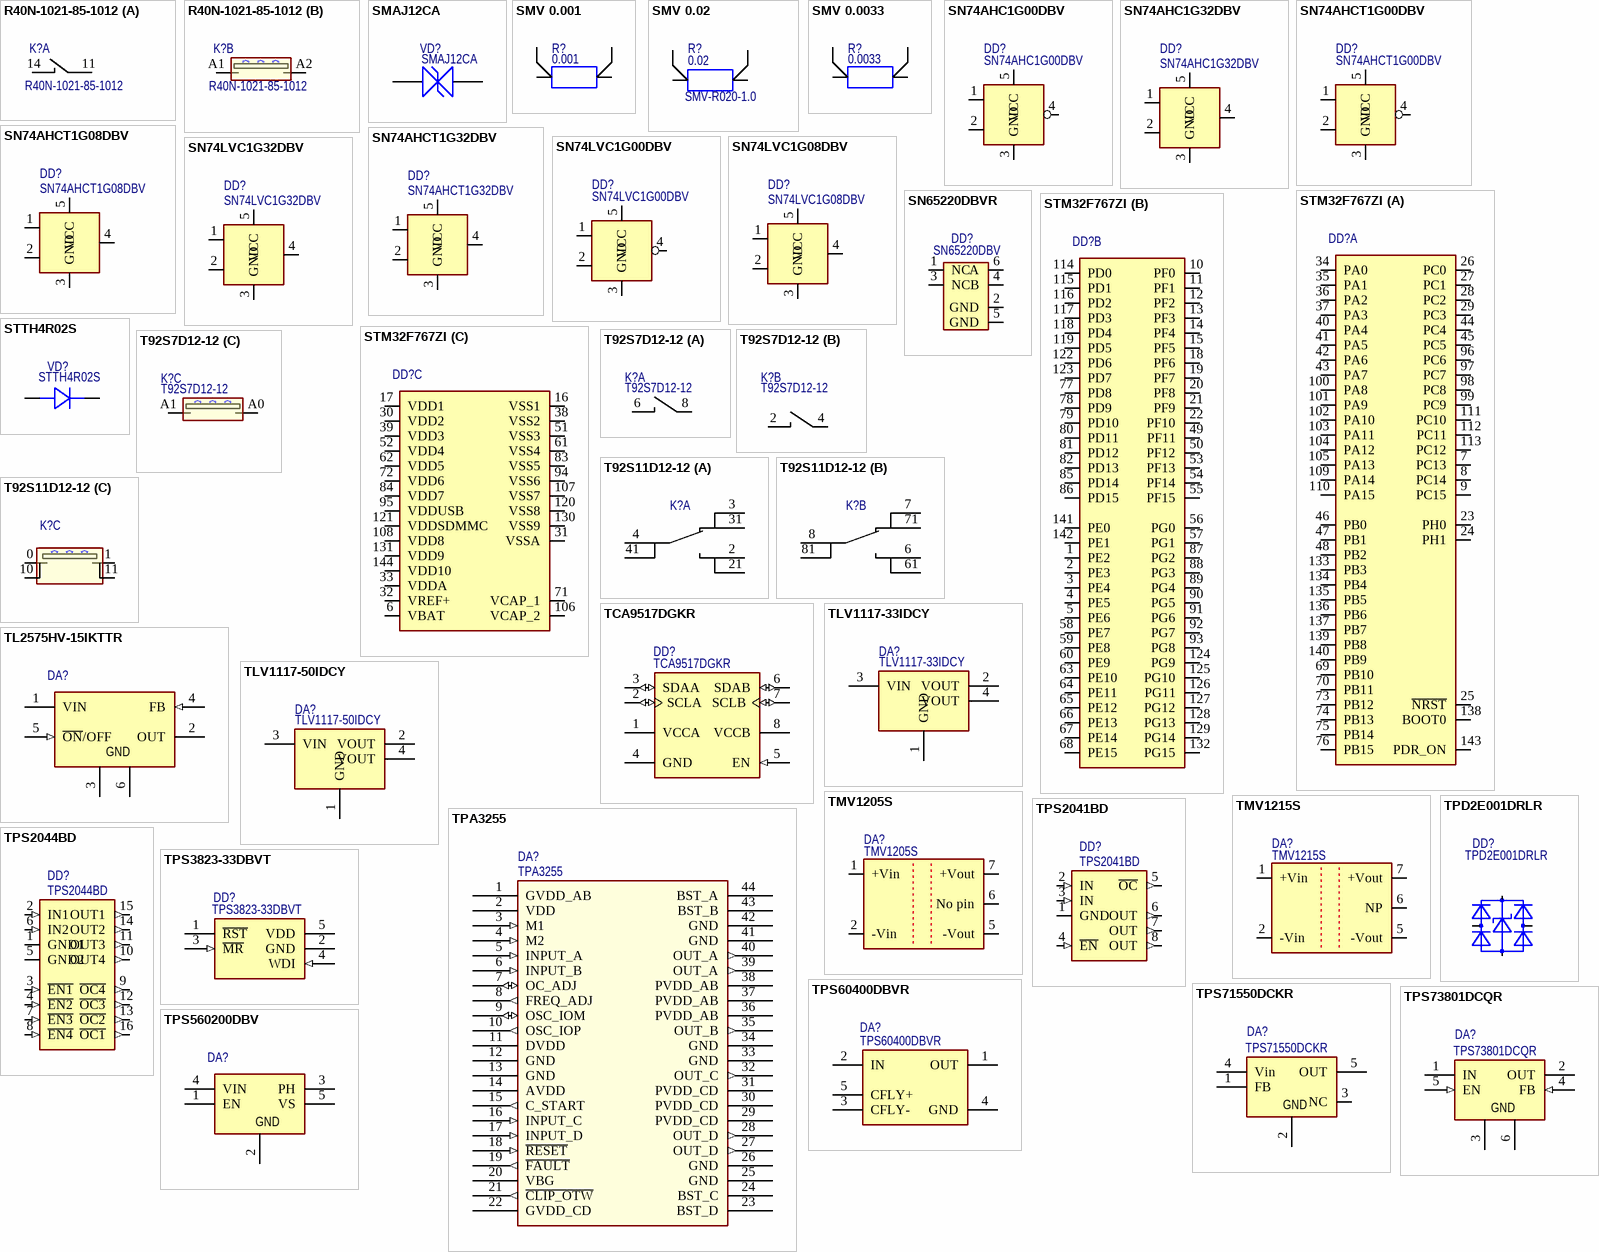
[diagram p4: symbols R40N-1021-85-1012 to TPS560200DBV]

## R40N-1021-85-1012
designator K?
240VAC 40A 1NO 12VDC; Manufacturer: Relpol; PartNumber: R40N-1021-85-1012
footprint R40N-1021
part A pins: 11, 14
part B pins: A1 1, A2 2

## SMAJ12CA
designator VD?
400W 12V  Transient Voltage Suppressor, Bidirectional; Manufacturer: LITTELFUSE; PartNumber: SMAJ12CA
footprint DO-214AC noPolarity (Molded Diode, 2-Leads, Body 5,10x2,67mm, IPC Medium Density)
pins: 1, 2

## SMV 0.001
designator R?, comment 0.001
SMV 5W R001 1% 30ppm; PartNumber: SMV-R001-1.0; Manufacturer: ISABELLENHUETTE; Value: 0.001
footprint SMV
pins: 1, 2, 3, 4

## SMV 0.02
designator R?, comment 0.02  PartNumber: SMV-R020-1.0
SMV 5W R020 1% 30ppm; Manufacturer: ISABELLENHUETTE; Value: 0.02
footprint SMV
pins: 1, 2, 3, 4

## SMV 0.0033
designator R?, comment 0.0033
SMV 5W R0033 1% 30ppm; PartNumber: SMV-R003-1.0; Manufacturer: ISABELLENHUETTE; Value: 0.0033
footprint SMV
pins: 1, 2, 3, 4

## SN74AHC1G00DBV
designator DD?
2-in NAND; Manufacturer: Texas Instruments; PartNumber: SN74AHC1G00DBV
footprint SOT-23(DBV) (SOT23, 5-Leads, Body 2,90x2,80mm, Pitch 0,95mm, IPC Medium Density)
pins: 1, 2, 3 GND, 4, 5 VCC
text: &

## SN74AHC1G32DBV
designator DD?
2-in OR; Manufacturer: Texas Instruments; PartNumber: SN74AHC1G32DBV
footprint SOT-23(DBV) (SOT23, 5-Leads, Body 2,90x2,80mm, Pitch 0,95mm, IPC Medium Density)
pins: 1, 2, 3 GND, 4, 5 VCC

## SN74AHCT1G00DBV
designator DD?
2-in NAND; Manufacturer: Texas Instruments; PartNumber: SN74AHCT1G00DBV
footprint SOT-23(DBV) (SOT23, 5-Leads, Body 2,90x2,80mm, Pitch 0,95mm, IPC Medium Density)
pins: 1, 2, 3 GND, 4, 5 VCC
text: &

## SN74AHCT1G08DBV
designator DD?
2-in AND; Manufacturer: Texas Instruments; PartNumber: SN74AHCT1G08DBV
footprint SOT-23(DBV) (SOT23, 5-Leads, Body 2,90x2,80mm, Pitch 0,95mm, IPC Medium Density)
pins: 1, 2, 3 GND, 4, 5 VCC
text: &

## SN74AHCT1G32DBV
designator DD?
2-in OR; Manufacturer: Texas Instruments; PartNumber: SN74AHCT1G32DBV
footprint SOT-23(DBV) (SOT23, 5-Leads, Body 2,90x2,80mm, Pitch 0,95mm, IPC Medium Density)
pins: 1, 2, 3 GND, 4, 5 VCC

## SN74LVC1G00DBV
designator DD?
2-in NAND; Manufacturer: Texas Instruments; PartNumber: SN74LVC1G00DBV
footprint SOT-23(DBV) (SOT23, 5-Leads, Body 2,90x2,80mm, Pitch 0,95mm, IPC Medium Density)
pins: 1, 2, 3 GND, 4, 5 VCC
text: &

## SN74LVC1G08DBV
designator DD?
2-in AND; Manufacturer: Texas Instruments; PartNumber: SN74LVC1G08DBV
footprint SOT-23(DBV) (SOT23, 5-Leads, Body 2,90x2,80mm, Pitch 0,95mm, IPC Medium Density)
pins: 1, 2, 3 GND, 4, 5 VCC
text: &

## SN74LVC1G32DBV
designator DD?
2-in OR; Manufacturer: Texas Instruments; PartNumber: SN74LVC1G32DBV
footprint SOT-23(DBV) (SOT23, 5-Leads, Body 2,90x2,80mm, Pitch 0,95mm, IPC Medium Density)
pins: 1, 2, 3 GND, 4, 5 VCC

## SN65220DBVR
designator DD?, comment SN65220DBV
Single Universal Serial Bus Port Transient Suppressor, 2 Channels, -40 to +85 degC, 6-pin SOT-23 (DBV), Green (RoHS & no Sb/Br); PartNumber: SN65220DBVR; Manufacturer: Texas Instruments; IO Capacitance(Typ)(pF): 35; IO Leakage Current(nA): 1000; Breakdown Voltage(Min)(V): 7; USB Full Speed: TRUE; SubFamily: ESD Solution; ComponentLink1Description: Datasheet; ComponentLink2Description: URL Link1; DatasheetVersion: SLLS266G; ComponentLink1URL: http://www.ti.com/general/docs/lit/getliterature.tsp?genericPartNumber=SN65220&fileType=pdf; Code_JEDEC: MO-178-AB*; PackageVersion: revK, Mar-2006; Eco-Plan: Green (RoHS & no Sb/Br); Mounting Technology: Surface Mount; PackageDescription: 6-Pin Plastic Small-Outline Package, 2.9 x 1.6 mm Body, 0.95 mm Pitch, 2.8 mm Lead Span; ComponentLink2URL: SamplesURL:http://www.ti.com/product/sn65220#samples; PackageReference: DBV6
footprint SOT23-6 (SOT23, 6-Leads, Body 2,90x2,45mm, Pitch 0,95mm, IPC Medium Density)
pins: 1 NC, 2 GND (power), 3 NC, 4 B, 5 GND (power), 6 A

## STM32F767ZI
designator DD?
32-bit ARM Cortex-M7 MCU+FPU; Manufactorer: ST; PartNumber: STM32F767ZI
footprint SOT486-1_V (Thin QFP, 144-Leads, Body 20x20mm, Pitch 0.5mm, NXP Recommended)
part A pins: 7 PC13, 8 PC14, 9 PC15, 23 PH0, 24 PH1, 25 ~{NRST}, 26 PC0, 27 PC1, 28 PC2, 29 PC3, 34 PA0, 35 PA1, 36 PA2, 37 PA3, 40 PA4, 41 PA5, 42 PA6, 43 PA7, 44 PC4, 45 PC5, 46 PB0, 47 PB1, 48 PB2, 69 PB10, 70 PB11, 73 PB12, 74 PB13, 75 PB14, 76 PB15, 96 PC6, 97 PC7, 98 PC8, 99 PC9, 100 PA8, 101 PA9, 102 PA10, 103 PA11, 104 PA12, 105 PA13, 109 PA14, 110 PA15, 111 PC10, 112 PC11, 113 PC12, 133 PB3, 134 PB4, 135 PB5, 136 PB6, 137 PB7, 138 BOOT0, 139 PB8, 140 PB9, 143 PDR_ON
part B pins: 1 PE2, 2 PE3, 3 PE4, 4 PE5, 5 PE6, 10 PF0, 11 PF1, 12 PF2, 13 PF3, 14 PF4, 15 PF5, 18 PF6, 19 PF7, 20 PF8, 21 PF9, 22 PF10, 49 PF11, 50 PF12, 53 PF13, 54 PF14, 55 PF15, 56 PG0, 57 PG1, 58 PE7, 59 PE8, 60 PE9, 63 PE10, 64 PE11, 65 PE12, 66 PE13, 67 PE14, 68 PE15, 77 PD8, 78 PD9, 79 PD10, 80 PD11, 81 PD12, 82 PD13, 85 PD14, 86 PD15, 87 PG2, 88 PG3, 89 PG4, 90 PG5, 91 PG6, 92 PG7, 93 PG8, 114 PD0, 115 PD1, 116 PD2, 117 PD3, 118 PD4, 119 PD5, 122 PD6, 123 PD7, 124 PG9, 125 PG10, 126 PG11, 127 PG12, 128 PG13, 129 PG14, 132 PG15, 141 PE0, 142 PE1
part C pins: 6 VBAT, 16 VSS1, 17 VDD1, 30 VDD2, 31 VSSA, 32 VREF+, 33 VDDA, 38 VSS2, 39 VDD3, 51 VSS3, 52 VDD4, 61 VSS4, 62 VDD5, 71 VCAP_1, 72 VDD6, 83 VSS5, 84 VDD7, 94 VSS6, 95 VDDUSB, 106 VCAP_2, 107 VSS7, 108 VDD8, 120 VSS8, 121 VDDSDMMC, 130 VSS9, 131 VDD9, 144 VDD10

## STTH4R02S
designator VD?
If=4A, Vf=0.76V Vrrm=200V Diode (SMC); Manufacturer: STMicroelectronics; PartNumber: STTH4R02S
footprint SMC (Molded Diode, 2-Leads, Body 6,88x5,90mm, IPC Medium Density)
pins: 1 ANODE, 2 CATHODE

## T92S7D12-12
designator K?
600VAC 40A DPDT 12VDC; Manufacturer: Tyco; PartNumber: T92S7D12-12
footprint T92S7
part A pins: 6, 8
part B pins: 2, 4
part C pins: A0, A1

## T92S11D12-12
designator K?
400VAC 30A DPDT 12VDC; PartNumber: 1-1393212-0; Manufacturer: TE Connectivity
footprint T92S11
part A pins: 2, 3, 4, 21, 31, 41
part B pins: 6, 7, 8, 61, 71, 81
part C pins: 0, 1, 10, 11
1 alternate drawing of the same symbol

## TCA9517DGKR
designator DD?
Level-Shifting I 2C Bus Repeater; Manufacturer: Texas Instruments; PartNumber: TCA9517DGKR
footprint DGK8_M (TSOP, 8-Leads, Body 3,00x3,00mm, Pitch 0,65mm, IPC Medium Density)
pins: 1 VCCA (power) "A-side supplyVoltage (0.9V to VCCB - 1V)", 2 SCLA (io) "Serial clock bus, A side.", 3 SDAA (io) "Serial data bus, A side.", 4 GND (power) "Supply ground", 5 EN (in) "Active-high repeater enable input", 6 SDAB (io) "Serial data bus, B side. Connect to VCCB through a pullup resistor.", 7 SCLB (io) "Serial clock bus, B side. Connect to VCCB through a pullup resistor.", 8 VCCB (power) "B-side and device supplyVoltage (2.7V to 5.5V)"

## TL2575HV-15IKTTR
designator DA?
Buck Step Down Regulator with 4.75 to 60 V Input and 12 V Output, -40 to 125 degC, 5-Pin DDPAK/TO-263 (KTT), Green (RoHS & no Sb/Br); Manufacturer: Texas Instruments; PartNumber: TL2575HV-15IKTTR
footprint KTT5_M (D2-PAK, 6-Leads, Body 8.9x10.2mm, Pitch 1.7mm, Lead Span 15.2mm, IPC Low Density)
pins: 1 VIN (power), 2 OUT (power), 3 GND (power), 4 FB (in), 5 ~{ON}/OFF (in), 6 GND (power)

## TLV1117-33IDCY
designator DA?
Voltage regulator 3.3V 800mA; Manufacturer: Texas Instrument; PartNumber: TLV1117-33IDCY
footprint SOT-223_M (SOT223, 4-Leads, Body 6.5x3.5mm, Pitch 2.3mm, Lead Span 7mm, IPC Low Density)
pins: 1 GND (power), 2 VOUT (power), 3 VIN (power), 4 VOUT (power)

## TLV1117-50IDCY
designator DA?
Voltage regulator 5.0V 800mA; Manufacturer: Texas Instrument; PartNumber: TLV1117-50IDCY
footprint SOT-223_M (SOT223, 4-Leads, Body 6.5x3.5mm, Pitch 2.3mm, Lead Span 7mm, IPC Low Density)
pins: 1 GND (power), 2 VOUT (power), 3 VIN (power), 4 VOUT (power)

## TMV1205S
designator DA?
DC/DC; Manufacturer: TRACO POWER; PartNumber: TMV1205S
footprint SIP7
pins: 1 +Vin, 2 -Vin, 5 -Vout, 6 No pin, 7 +Vout

## TMV1215S
designator DA?
DC/DC; Manufacturer: TRACO POWER; PartNumber: TMV1215S
footprint SIP7
pins: 1 +Vin, 2 -Vin, 5 -Vout, 6 NP, 7 +Vout